# Altium schematic symbol library TPS5430.SchLib: 1 symbol
Pins are listed as number, name and electrical type; pins without a type are passive.

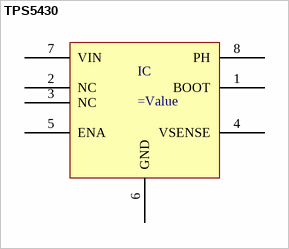
[diagram p0: symbol TPS5430]

## TPS5430
designator IC
=Description
pins: 1 BOOT, 2 NC (hiz), 3 NC (hiz), 4 VSENSE, 5 ENA, 6 GND (power), 7 VIN (power), 8 PH